# EAGLE library part HEADER-4X(1X04) (library magzor)
for -QUAD-SERVO-FDBK, be sure to set letter attributes (e.g. >C) to a servo number (e.g. 3); 2 x FCI p/n 68602-108HLF would work well for that
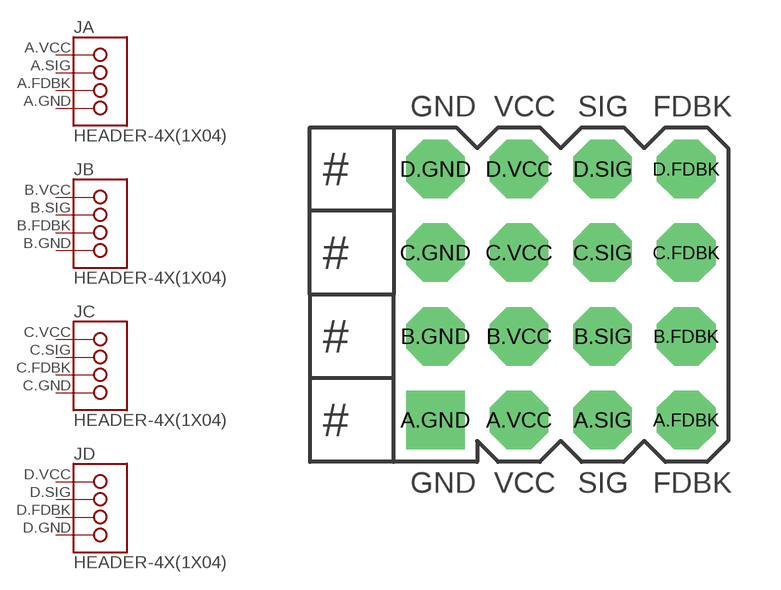
[diagram p31: symbol with the pads of HEADER-4X04-QUAD-SERVO-FDBK; footprint HEADER-4X04-QUAD-SERVO-FDBK]

Designator prefix J; gates A=HEADER-1X04 B=HEADER-1X04 C=HEADER-1X04 D=HEADER-1X04

## HEADER-4X(1X04)-QUAD-SERVO-FDBK  [HEADER-4X04-QUAD-SERVO-FDBK]
A.FDBK  A:3
A.GND  A:4
A.SIG  A:2
A.VCC  A:1
B.FDBK  B:3
B.GND  B:4
B.SIG  B:2
B.VCC  B:1
C.FDBK  C:3
C.GND  C:4
C.SIG  C:2
C.VCC  C:1
D.FDBK  D:3
D.GND  D:4
D.SIG  D:2
D.VCC  D:1

## Footprint HEADER-4X04-QUAD-SERVO-FDBK (pad centres in mm)
drill 0.965 pad 1.778 octagon: A.FDBK 3.81,-3.81; A.SIG 1.27,-3.81; A.VCC -1.27,-3.81; B.FDBK 3.81,-1.27; B.GND -3.81,-1.27; B.SIG 1.27,-1.27; B.VCC -1.27,-1.27; C.FDBK 3.81,1.27; C.GND -3.81,1.27; C.SIG 1.27,1.27; C.VCC -1.27,1.27; D.FDBK 3.81,3.81; D.GND -3.81,3.81; D.SIG 1.27,3.81; D.VCC -1.27,3.81
drill 0.965 pad 1.778 square: A.GND -3.81,-3.81